# Altium footprint library 191015 Integrated DED Equipment.PcbLib: 25 footprints (part 2 of 2)
Each footprint in its own frame and in the unit in brackets; x right, y up, seen from the top. Pads: shape width x height; smd on the part's side, far side on the other; paste and mask are expansions set on the pad; w line width, h text height; cw(c..) or ccw(c..) is an arc to the next point about the centre after c.
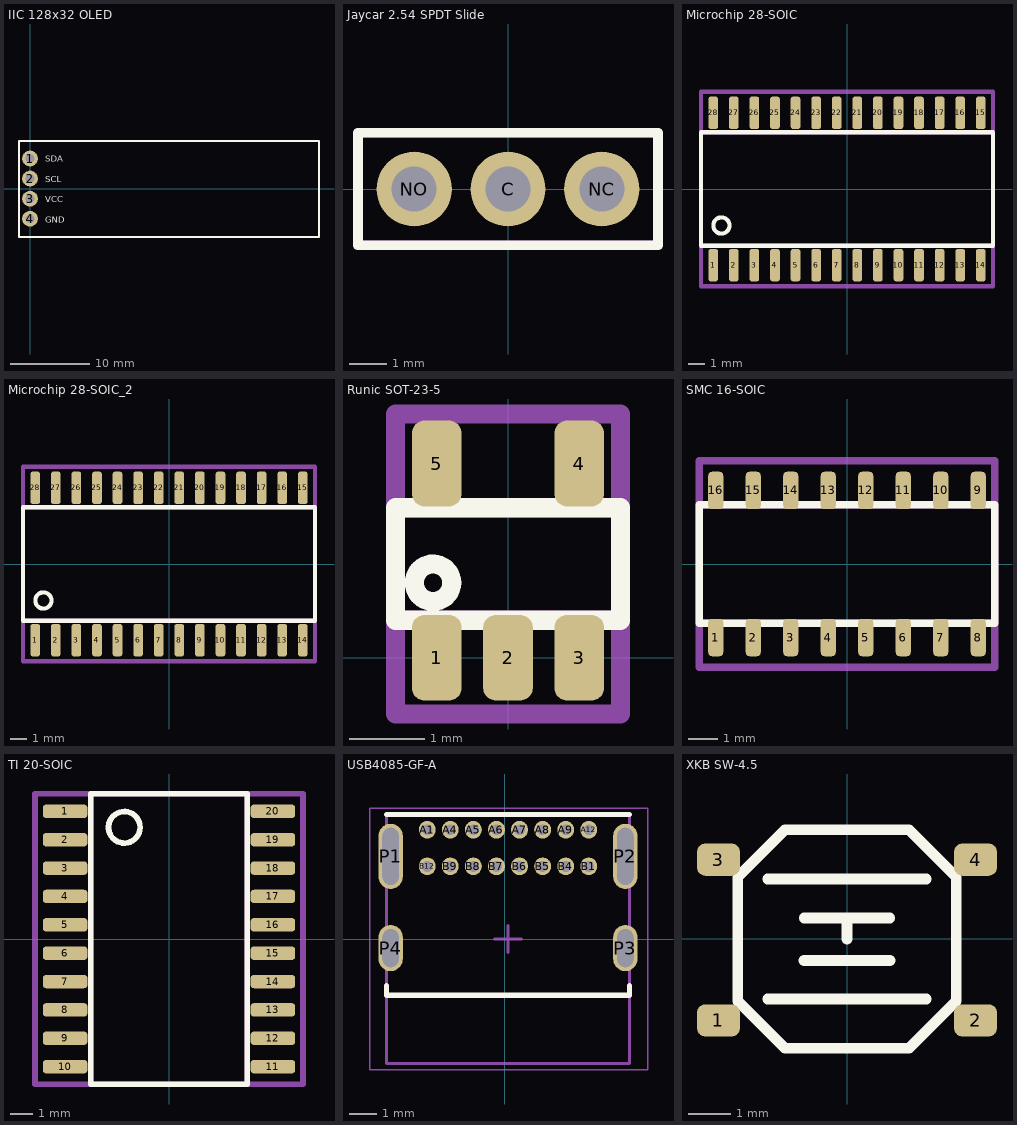
[diagram p1: the footprints below, top view; thin cyan lines are the x and y axes]

## IIC 128x32 OLED [mm]
pads (4):
  round 2 hole 1.1: 1(0,3.81) 2(0,1.27) 3(0,-1.27) 4(0,-3.81)
Top Overlay:
  lines w0.254: -1.4,-6.1 36.6,-6.1 36.6,6 -1.4,6 -1.4,-6.1
  text "GND" at 1.9,-4.3 h0.8
  text "VCC" at 1.9,-1.733 h0.8
  text "SCL" at 1.9,0.833 h0.8
  text "SDA" at 1.9,3.4 h0.8
3D body "OLED 128x32 Display.step": height 5.5, standoff -5.7, extent -1.37,-6.1 36.63,5.9

## Jaycar 2.54 SPDT Slide [mm]
pads (3):
  round 2 hole 1.2: C(0,0) NC(2.5,0) NO(-2.5,0)
Top Overlay:
  lines w0.254: -4,-1.5 -4,1.5 4,1.5 4,-1.5 -4,-1.5
Mechanical 13:
  lines w0.254: -4,-1.5 4,-1.5 4,1.5 3.75,1.5 -4,1.5 -4,-1.5
3D body: height 0, standoff -2, extent -2.996,-0.499 -2,0.499
3D body: height 0, standoff -2, extent -0.496,-0.499 0.5,0.499
3D body: height 0, standoff -2, extent 2.004,-0.499 3,0.499
3D body: height 4.3, standoff 0, extent 0.659,-1 2.159,1
3D body: height 0, standoff -2, extent -2,1 -2,1
3D body: height 3, standoff 0, extent -4,-1.5 4,1.5

## Microchip 28-SOIC [mm]
pads (28):
  rrect50% 0.6x2 smd: 1(-8.255,-4.7) 2(-6.985,-4.7) 3(-5.715,-4.7) 4(-4.445,-4.7) 5(-3.175,-4.7) 6(-1.905,-4.7) 7(-0.635,-4.7) 8(0.635,-4.7) 9(1.905,-4.7) 10(3.175,-4.7) 11(4.445,-4.7) 12(5.715,-4.7) 13(6.985,-4.7) 14(8.255,-4.7) 15(8.255,4.7) 16(6.985,4.7) 17(5.715,4.7) 18(4.445,4.7) 19(3.175,4.7) 20(1.905,4.7) 21(0.635,4.7) 22(-0.635,4.7) 23(-1.905,4.7) 24(-3.175,4.7) 25(-4.445,4.7) 26(-5.715,4.7) 27(-6.985,4.7) 28(-8.255,4.7)
Top Overlay:
  circle w0.254: c-7.75,-2.25 r0.5
  lines w0.254: -9,-3.5 -9,3.5 9,3.5 9,-3.5 -9,-3.5
Mechanical 13:
  lines w0.254: -9,-3.5 9,-3.5 9,3.5 -9,3.5 -9,-3.5
Mechanical 15:
  lines w0.254: -9,-6 9,-6 9,6 -9,6 -9,-6
3D body "SW3dPS-SOIC28-300.SLDPRT": height 2.65, standoff 0, extent -8.95,-5.15 8.95,5.15

## Microchip 28-SOIC_2 [mm]
pads (28):
  rrect50% 0.6x2 smd: 1(-8.255,-4.7) 2(-6.985,-4.7) 3(-5.715,-4.7) 4(-4.445,-4.7) 5(-3.175,-4.7) 6(-1.905,-4.7) 7(-0.635,-4.7) 8(0.635,-4.7) 9(1.905,-4.7) 10(3.175,-4.7) 11(4.445,-4.7) 12(5.715,-4.7) 13(6.985,-4.7) 14(8.255,-4.7) 15(8.255,4.7) 16(6.985,4.7) 17(5.715,4.7) 18(4.445,4.7) 19(3.175,4.7) 20(1.905,4.7) 21(0.635,4.7) 22(-0.635,4.7) 23(-1.905,4.7) 24(-3.175,4.7) 25(-4.445,4.7) 26(-5.715,4.7) 27(-6.985,4.7) 28(-8.255,4.7)
Top Overlay:
  circle w0.254: c-7.75,-2.25 r0.5
  lines w0.254: -9,-3.5 -9,3.5 9,3.5 9,-3.5 -9,-3.5
Mechanical 13:
  lines w0.254: -9,-3.5 9,-3.5 9,3.5 -9,3.5 -9,-3.5
Mechanical 15:
  lines w0.254: -9,-6 9,-6 9,6 -9,6 -9,-6
3D body "SW3dPS-SOIC28-300.SLDPRT": height 2.65, standoff 0, extent -8.95,-5.15 8.95,5.15

## Runic SOT-23-5 [mil]
pads (5):
  rrect50% 26x45 smd: 1(-37.4,0) 2(0,0) 3(37.4,0) 4(37.4,101.97) 5(-37.4,101.97)
Top Overlay:
  circle w10: c-39.37,39.37 r9.84
  lines w10: -59.06,19.68 59.06,19.68 59.06,78.74 -59.06,78.74 -59.06,19.68
Mechanical 13:
  lines w10: -59.06,19.68 -59.06,78.74 59.06,78.74 59.06,19.68 -59.06,19.68
Mechanical 15:
  lines w10: -59.06,-29.53 -59.06,127.95 59.06,127.95 59.06,-29.53 -59.06,-29.53
3D body "DBV5.step": height 57.09, standoff 0, extent -60,-8.02 60,110.01

## SMC 16-SOIC [mm]
pads (16):
  rrect50% 0.51x1.27 smd: 1(-4.445,-2.49) 2(-3.175,-2.49) 3(-1.905,-2.49) 4(-0.635,-2.49) 5(0.635,-2.49) 6(1.905,-2.49) 7(3.175,-2.49) 8(4.445,-2.49) 9(4.445,2.49) 10(3.175,2.49) 11(1.905,2.49) 12(0.635,2.49) 13(-0.635,2.49) 14(-1.905,2.49) 15(-3.175,2.49) 16(-4.445,2.49)
Top Overlay:
  lines w0.254: -5,-2 -5,2 5,2 5,-2 -5,-2
Mechanical 13:
  lines w0.254: -5,-2 -5,2 5,2 5,-2 -5,-2
Mechanical 15:
  lines w0.254: -5,-3.5 -5,3.5 5,3.5 5,-3.5 -5,-3.5
3D body: height 1.5, standoff 0, extent -5,-2 5,2
3D body: height 2.65, standoff 0, extent -4.7,1.7 -4.7,1.7

## TI 20-SOIC [mm]
pads (20):
  rrect50% 2x0.6 smd: 1(-4.65,5.715) 2(-4.65,4.445) 3(-4.65,3.175) 4(-4.65,1.905) 5(-4.65,0.635) 6(-4.65,-0.635) 7(-4.65,-1.905) 8(-4.65,-3.175) 9(-4.65,-4.445) 10(-4.65,-5.715) 11(4.65,-5.715) 12(4.65,-4.445) 13(4.65,-3.175) 14(4.65,-1.905) 15(4.65,-0.635) 16(4.65,0.635) 17(4.65,1.905) 18(4.65,3.175) 19(4.65,4.445) 20(4.65,5.715)
Top Overlay:
  circle w0.254: c-2,5 r0.707
  lines w0.254: -3.5,-6.5 -3.5,6.502 3.5,6.502 3.5,-6.5 -3.5,-6.5
Mechanical 13:
  lines w0.254: -3.5,-6.5 -3.5,6.5 3.5,6.5 3.5,-6.5 -3.5,-6.5
Mechanical 15:
  lines w0.254: -6,-6.5 -6,6.5 6,6.5 6,-6.5 -6,-6.5
3D body "DW20.step": height 2.64, standoff 0, extent -5.321,-6.502 5.321,6.502

## USB4085-GF-A [mm]
pads (20):
  oval 0.62x0.65 hole 0.4: A1(-2.848,4.025) A4(-1.998,4.025) A5(-1.148,4.025) A6(-0.298,4.025) A7(0.552,4.025) A8(1.402,4.025) A9(2.252,4.025) A12(3.102,4.025) B1(3.102,2.675) B4(2.252,2.675) B5(1.402,2.675) B6(0.552,2.675) B7(-0.298,2.675) B8(-1.148,2.675) B9(-1.998,2.675) B12(-2.848,2.675)
  oval 0.9x2.4 hole 0.6 slot 2.1 at 90 deg: P1(-4.198,3.045) P2(4.452,3.045)
  oval 0.9x1.7 hole 0.6 slot 1.4 at 90 deg: P3(4.452,-0.335) P4(-4.198,-0.335)
Top Overlay:
  lines w0.2: -4.348,-1.725 -4.348,-2.075 4.602,-2.075 4.602,-1.725 ; -4.348,4.585 4.602,4.585
Mechanical 13:
  lines w0.1: -4.348,-4.585 4.602,-4.585 4.602,4.585 -4.348,4.585 -4.348,-4.585
Mechanical 15:
  lines w0.05: -4.973,-4.825 5.277,-4.825 5.277,4.825 -4.973,4.825 -4.973,-4.825
  lines w0.1: -0.373,0 0.627,0 ; 0.127,-0.5 0.127,0.5
3D body "USB4085-03-A_revA.STEP": height 3.46, standoff -2.1, extent -4.388,-4.564 4.642,4.606

## XKB SW-4.5 [mm]
pads (4):
  rrect50% 1x0.75 smd: 1(-3,-1.9) 2(3,-1.9) 3(-3,1.85) 4(3,1.85)
Top Overlay:
  lines w0.254: -1.85,-1.4 1.85,-1.4 ; -1.85,1.4 1.85,1.4 ; -1,-0.5 1,-0.5 ; -0.998,0.492 0.998,0.492 ; 0,0 0,0.492 ; -2.55,-1.45 -2.55,1.45 -1.45,2.55 1.45,2.55 2.55,1.45 2.55,-1.45 1.45,-2.55 -1.45,-2.55 -2.55,-1.45
3D body: height 0.25, standoff 0, extent -3,-2 3,-1.75
3D body: height 0.25, standoff 0, extent -3,1.75 3,2
3D body: height 1.35, standoff 0, extent -0.992,-0.998 1,0.998
3D body: height 0.25, standoff 0, extent -2.5,3 -2.5,3
3D body: height 1.2, standoff 0, extent -1.85,-1.85 1.85,1.85
3D body: height 1, standoff 0, extent -2.55,-2.55 2.55,2.55